# Altium schematic symbol library multiplexers.SchLib: 2 symbols
Pins are listed as number, name and electrical type; pins without a type are passive.

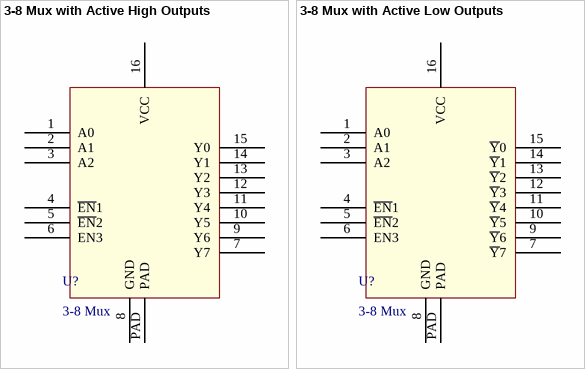
[diagram p0: symbols 3-8 Mux with Active High Outputs to 3-8 Mux with Active Low Outputs]

## 3-8 Mux with Active High Outputs
designator U?, comment 3-8 Mux
74HCT238BQ; Manufacturer Part No.: 74HCT238BQ,115; Digi-Key Part No.: 568-9248-1-ND
footprint DHVQFN
pins: 1 A0, 2 A1, 3 A2, 4 ~{EN}1, 5 ~{EN}2, 6 EN3, 7 Y7, 8 GND, 9 Y6, 10 Y5, 11 Y4, 12 Y3, 13 Y2, 14 Y1, 15 Y0, 16 VCC, PAD

## 3-8 Mux with Active Low Outputs
designator U?, comment 3-8 Mux
74HC138BQ; Manufacturer Part No.: 74HC138BQ,115; Digi-Key Part No.: 568-2607-1-ND
footprint DHVQFN
pins: 1 A0, 2 A1, 3 A2, 4 ~{EN}1, 5 ~{EN}2, 6 EN3, 7 ~{Y}7, 8 GND, 9 ~{Y}6, 10 ~{Y}5, 11 ~{Y}4, 12 ~{Y}3, 13 ~{Y}2, 14 ~{Y}1, 15 ~{Y}0, 16 VCC, PAD